# EAGLE library part LM53603-Q1 (library df4iah_powersupply)
TI LM53603-Q1 3.5 V to 36 V Wide-VIN Synchronous 2.1 MHz Step- Down Converters for Automotive Applications
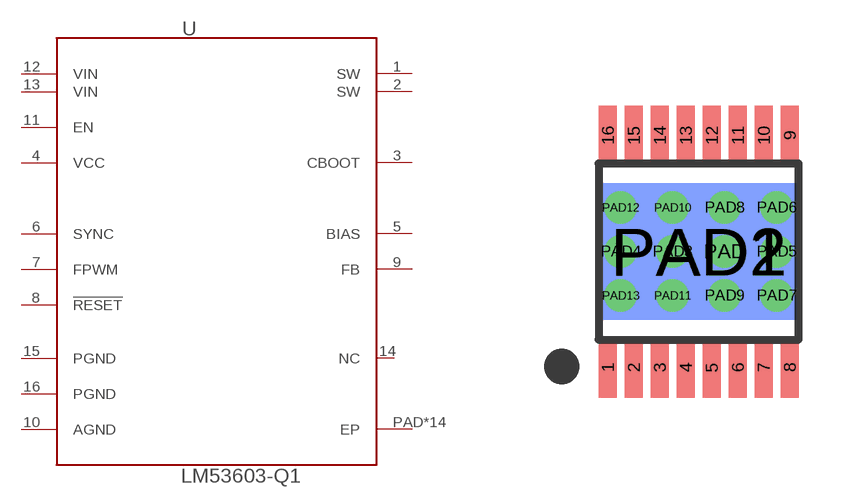
[diagram p5: symbol with the pads of HTSSOP16; footprint HTSSOP16]

Designator prefix U

## LM53603-Q1  [HTSSOP16]
1  SW  pas
2  SW  pas
3  CBOOT  pas
4  VCC  pas
5  BIAS  pwr
6  SYNC  in
7  FPWM  in
8  !RESET  out
9  FB  pas
10  AGND  pas
11  EN  in
12  VIN  pwr
13  VIN  pwr
14  NC  nc
15  PGND  pas
16  PGND  pas
PAD  EP  pas
PAD1  EP  pas
PAD2  EP  pas
PAD3  EP  pas
PAD4  EP  pas
PAD5  EP  pas
PAD6  EP  pas
PAD7  EP  pas
PAD8  EP  pas
PAD9  EP  pas
PAD10  EP  pas
PAD11  EP  pas
PAD12  EP  pas
PAD13  EP  pas

## Footprint HTSSOP16 (pad centres in mm)
H Thin Shrink Small Outline Package HTSSOP-16 Body: 4.40mm width Pitch: 0.65mm PowerPAD (TM) Reference: Texas Intruments PWP0016D
smd 0.45 x 1.5: 1 -2.275,-2.9; 2 -1.625,-2.9; 3 -0.975,-2.9; 4 -0.325,-2.9; 5 0.325,-2.9; 6 0.975,-2.9; 7 1.625,-2.9; 8 2.275,-2.9; 9 2.275,2.9; 10 1.625,2.9; 11 0.975,2.9; 12 0.325,2.9; 13 -0.325,2.9; 14 -0.975,2.9; 15 -1.625,2.9; 16 -2.275,2.9
drill 0.305: PAD 0.65,0; PAD3 -0.65,0; PAD4 -1.95,0; PAD5 1.95,0; PAD6 1.95,1.1; PAD7 1.95,-1.1; PAD8 0.65,1.1; PAD9 0.65,-1.1; PAD10 -0.65,1.1; PAD11 -0.65,-1.1; PAD12 -1.95,1.1; PAD13 -1.95,-1.1
smd 5 x 3.4: PAD1 0,0
smd 5 x 3.4 bottom: PAD2 0,0